# EAGLE library part WE-SL_4WINDING (library EagleLibrary_Wuerth_Elektronik_eiSos_rev16a)
SMD Common-Mode Choke Line Filter WE-SL For distortion-free removal of noise from transmitted electrical signals - 2 or 4 winding configuration - Offering a wide band width with the core materials of NiZn and MnZn -- Current compensated choke for data and signal lines -- USB/CAN/ISDN-Bus -- Power supply systems -- Control lines -- LAN, PBX, cable TV, CD-ROM, 8mm video, etc. <http://katalog.we-online.de/media/images/eisos/IndSL_pf2.jpg> Details see: http://katalog.we-online.de/en/pbs/WE-SL? Updated by Dan Xu 2014-07-11 2014 (C) Würth Elektronik
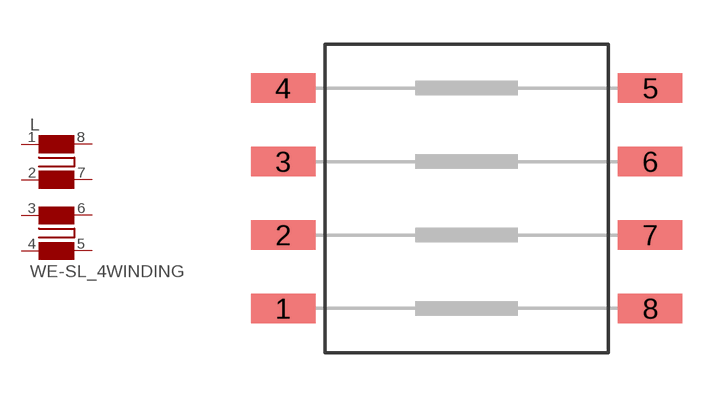
[diagram p30: symbol with the pads of WE-SL_4WINDING; footprint WE-SL_4WINDING]

Designator prefix L

## WE-SL_4WINDING, WE-SL_4WINDING_744201, WE-SL_4WINDING_744202, WE-SL_4WINDING_744203, WE-SL_4WINDING_744204, WE-SL_4WINDING_744205  [WE-SL_4WINDING]
1  1  pas
2  2  pas
3  3  pas
4  4  pas
5  5  pas
6  6  pas
7  7  pas
8  8  pas

## Footprint WE-SL_4WINDING (pad centres in mm)
SMD Common-Mode Line Filter WE-SL
smd 2.2 x 1: 1 -6.25,-3.75; 2 -6.25,-1.25; 3 -6.25,1.25; 4 -6.25,3.75; 5 6.25,3.75; 6 6.25,1.25; 7 6.25,-1.25; 8 6.25,-3.75